# Altium schematic symbol library Schlib1.SchLib: 11 symbols
Pins are listed as number, name and electrical type; pins without a type are passive.

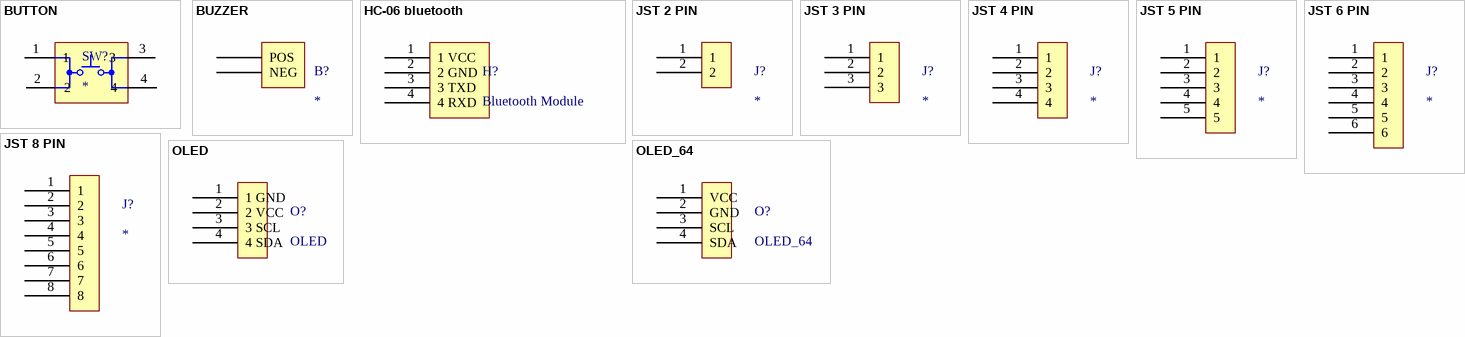
[diagram p0: symbols BUTTON to OLED_64]

## BUTTON
designator SW?
ALCOSWITCH - TE CONNECTIVITY - RESET BUTTON; Manufacturer: TE Connectivity Alcoswitch; Manufacturer Part Number: 1825910-6; Actuator Color: Black; Actuator Length: 1.4 mm; Actuator Material: Polybutylene Terephthalate; Body Orientation: Straight; Actuator Style: Round Button; Bushing Type: Unthreaded; Electrical Life: 100000 Cycles; Dielectric Strength: 500 VAC; Contact Rating @ Voltage: 0.05A@24VDC; Function: Momentary Contact; Maximum DC Voltage Rating: 24 V; Pole Throw Configuration: SPST; Maximum Contact Resistance: 100 mOhm; Illumination: N/R; Switch Configuration: OFF (ON); Supplier 1: Digi-Key; Stock 1: 77076; Pricing 1: 1=0.1, 10=0.093, 25=0.0892, 50=0.0862, 100=0.0814, 250=0.0766, 500=0.0734, 1000=0.0558, 5000=0.0463 (USD); Base Material: N/A; Family: 1825910; Contact Material: Copper Alloy; Contact Plating: Silver; Dimension: 5.99 x 5 mm; Part No: 1825910-6; RoHS: Yes; Maximum AC Voltage Rating: N/A; Mechanical Life: 100000 Cycles; Packaging: N/A; Housing Material: N/A; Product Weight: N/A; Mounting: Through Hole; Minimum Insulation Resistance: 100 MOhm; Operating Temperature: -35 to 85 C; Terminal Type: PC Pins; Seal Description: N/A; Seal Location: N/A; Thread Size: N/R; ComponentLink1URL: http://www.onlinecomponents.com/productFiles/mf-AMP/1825910-6rqpn1825910-6.pdf?src-supplier=Onlinecomponents.com; ComponentLink1Description: http://www.onlinecomponents.com/productFiles/mf-AMP/1825910-6rqpn1825910-6.pdf?src-supplier=Onlinecomponents.com; ComponentLink2URL: http://www.te.com/commerce/DocumentDelivery/DDEController?Action=srchrtrv&DocNm=1825910&DocType=Customer+Drawing&DocLang=English&src-supplier=Verical; ComponentLink2Description: http://www.te.com/commerce/DocumentDelivery/DDEController?Action=srchrtrv&DocNm=1825910&DocType=Customer+Drawing&DocLang=English&src-supplier=Verical; Supplier Part Number 1: 450-1650-ND
footprint PUSH BUTTON
pins: 1, 2, 3, 4

## BUZZER
designator B?
JST (JAPAN SOLDERLESS TERMINALS) - B8B-XH-A (LF)(SN) - HEADER, VERTICAL, 8WAY; No of Positions: 8; Pitch: 2.5 mm; Style/Orientation: Straight Header/Plug; Supplier 1: Digi-Key; Manufacturer: JST; Manufacturer Part Number: B8B-XH-A(LF)(SN); Stock 1: 29643; Pricing 1: 1=0.36, 10=0.341, 100=0.2387, 500=0.2046, 1000=0.1705, 5000=0.1461, 10000=0.1364 (USD); Type: Shrouded Header; Termination: Crimp; ComponentLink1URL: https://www.verical.com/server-webapp/html/getDatasheet?partID=440408&src-supplier=Verical; ComponentLink1Description: https://www.verical.com/server-webapp/html/getDatasheet?partID=440408&src-supplier=Verical; Supplier Part Number 1: 455-2251-ND
footprint new buzzer
pins: 1 POS, 2 NEG

## HC-06 bluetooth
designator H?, comment Bluetooth Module
JST (JAPAN SOLDERLESS TERMINALS) - B8B-XH-A (LF)(SN) - HEADER, VERTICAL, 8WAY; No of Positions: 8; Pitch: 2.5 mm; Style/Orientation: Straight Header/Plug; Supplier 1: Digi-Key; Manufacturer: JST; Manufacturer Part Number: B8B-XH-A(LF)(SN); Stock 1: 29643; Pricing 1: 1=0.36, 10=0.341, 100=0.2387, 500=0.2046, 1000=0.1705, 5000=0.1461, 10000=0.1364 (USD); Type: Shrouded Header; Termination: Crimp; ComponentLink1URL: https://www.verical.com/server-webapp/html/getDatasheet?partID=440408&src-supplier=Verical; ComponentLink1Description: https://www.verical.com/server-webapp/html/getDatasheet?partID=440408&src-supplier=Verical; Supplier Part Number 1: 455-2251-ND
footprint HC-06 bluetooth
pins: 1 1 VCC, 2 2 GND, 3 3 TXD, 4 4 RXD

## JST 2 PIN
designator J?
JST (JAPAN SOLDERLESS TERMINALS) - B8B-XH-A (LF)(SN) - HEADER, VERTICAL, 8WAY; No of Positions: 8; Pitch: 2.5 mm; Style/Orientation: Straight Header/Plug; Supplier 1: Digi-Key; Manufacturer: JST; Manufacturer Part Number: B8B-XH-A(LF)(SN); Stock 1: 29643; Pricing 1: 1=0.36, 10=0.341, 100=0.2387, 500=0.2046, 1000=0.1705, 5000=0.1461, 10000=0.1364 (USD); Type: Shrouded Header; Termination: Crimp; ComponentLink1URL: https://www.verical.com/server-webapp/html/getDatasheet?partID=440408&src-supplier=Verical; ComponentLink1Description: https://www.verical.com/server-webapp/html/getDatasheet?partID=440408&src-supplier=Verical; Supplier Part Number 1: 455-2251-ND
footprint JST2
pins: 1, 2

## JST 3 PIN
designator J?
JST (JAPAN SOLDERLESS TERMINALS) - B8B-XH-A (LF)(SN) - HEADER, VERTICAL, 8WAY; No of Positions: 8; Pitch: 2.5 mm; Style/Orientation: Straight Header/Plug; Supplier 1: Digi-Key; Manufacturer: JST; Manufacturer Part Number: B8B-XH-A(LF)(SN); Stock 1: 29643; Pricing 1: 1=0.36, 10=0.341, 100=0.2387, 500=0.2046, 1000=0.1705, 5000=0.1461, 10000=0.1364 (USD); Type: Shrouded Header; Termination: Crimp; ComponentLink1URL: https://www.verical.com/server-webapp/html/getDatasheet?partID=440408&src-supplier=Verical; ComponentLink1Description: https://www.verical.com/server-webapp/html/getDatasheet?partID=440408&src-supplier=Verical; Supplier Part Number 1: 455-2251-ND
footprint JST3
pins: 1, 2, 3

## JST 4 PIN
designator J?
JST (JAPAN SOLDERLESS TERMINALS) - B8B-XH-A (LF)(SN) - HEADER, VERTICAL, 8WAY; No of Positions: 8; Pitch: 2.5 mm; Style/Orientation: Straight Header/Plug; Supplier 1: Digi-Key; Manufacturer: JST; Manufacturer Part Number: B8B-XH-A(LF)(SN); Stock 1: 29643; Pricing 1: 1=0.36, 10=0.341, 100=0.2387, 500=0.2046, 1000=0.1705, 5000=0.1461, 10000=0.1364 (USD); Type: Shrouded Header; Termination: Crimp; ComponentLink1URL: https://www.verical.com/server-webapp/html/getDatasheet?partID=440408&src-supplier=Verical; ComponentLink1Description: https://www.verical.com/server-webapp/html/getDatasheet?partID=440408&src-supplier=Verical; Supplier Part Number 1: 455-2251-ND
footprint JST4
pins: 1, 2, 3, 4

## JST 5 PIN
designator J?
JST (JAPAN SOLDERLESS TERMINALS) - B8B-XH-A (LF)(SN) - HEADER, VERTICAL, 8WAY; No of Positions: 8; Pitch: 2.5 mm; Style/Orientation: Straight Header/Plug; Supplier 1: Digi-Key; Manufacturer: JST; Manufacturer Part Number: B8B-XH-A(LF)(SN); Stock 1: 29643; Pricing 1: 1=0.36, 10=0.341, 100=0.2387, 500=0.2046, 1000=0.1705, 5000=0.1461, 10000=0.1364 (USD); Type: Shrouded Header; Termination: Crimp; ComponentLink1URL: https://www.verical.com/server-webapp/html/getDatasheet?partID=440408&src-supplier=Verical; ComponentLink1Description: https://www.verical.com/server-webapp/html/getDatasheet?partID=440408&src-supplier=Verical; Supplier Part Number 1: 455-2251-ND
footprint JST5
pins: 1, 2, 3, 4, 5

## JST 6 PIN
designator J?
JST (JAPAN SOLDERLESS TERMINALS) - B8B-XH-A (LF)(SN) - HEADER, VERTICAL, 8WAY; No of Positions: 8; Pitch: 2.5 mm; Style/Orientation: Straight Header/Plug; Supplier 1: Digi-Key; Manufacturer: JST; Manufacturer Part Number: B8B-XH-A(LF)(SN); Stock 1: 29643; Pricing 1: 1=0.36, 10=0.341, 100=0.2387, 500=0.2046, 1000=0.1705, 5000=0.1461, 10000=0.1364 (USD); Type: Shrouded Header; Termination: Crimp; ComponentLink1URL: https://www.verical.com/server-webapp/html/getDatasheet?partID=440408&src-supplier=Verical; ComponentLink1Description: https://www.verical.com/server-webapp/html/getDatasheet?partID=440408&src-supplier=Verical; Supplier Part Number 1: 455-2251-ND
footprint JST6
pins: 1, 2, 3, 4, 5, 6

## JST 8 PIN
designator J?
JST (JAPAN SOLDERLESS TERMINALS) - B8B-XH-A (LF)(SN) - HEADER, VERTICAL, 8WAY; No of Positions: 8; Pitch: 2.5 mm; Style/Orientation: Straight Header/Plug; Supplier 1: Digi-Key; Manufacturer: JST; Manufacturer Part Number: B8B-XH-A(LF)(SN); Stock 1: 29643; Pricing 1: 1=0.36, 10=0.341, 100=0.2387, 500=0.2046, 1000=0.1705, 5000=0.1461, 10000=0.1364 (USD); Type: Shrouded Header; Termination: Crimp; ComponentLink1URL: https://www.verical.com/server-webapp/html/getDatasheet?partID=440408&src-supplier=Verical; ComponentLink1Description: https://www.verical.com/server-webapp/html/getDatasheet?partID=440408&src-supplier=Verical; Supplier Part Number 1: 455-2251-ND
footprint JST8
pins: 1, 2, 3, 4, 5, 6, 7, 8

## OLED
designator O?
JST (JAPAN SOLDERLESS TERMINALS) - B8B-XH-A (LF)(SN) - HEADER, VERTICAL, 8WAY; No of Positions: 8; Pitch: 2.5 mm; Style/Orientation: Straight Header/Plug; Supplier 1: Digi-Key; Manufacturer: JST; Manufacturer Part Number: B8B-XH-A(LF)(SN); Stock 1: 29643; Pricing 1: 1=0.36, 10=0.341, 100=0.2387, 500=0.2046, 1000=0.1705, 5000=0.1461, 10000=0.1364 (USD); Type: Shrouded Header; Termination: Crimp; ComponentLink1URL: https://www.verical.com/server-webapp/html/getDatasheet?partID=440408&src-supplier=Verical; ComponentLink1Description: https://www.verical.com/server-webapp/html/getDatasheet?partID=440408&src-supplier=Verical; Supplier Part Number 1: 455-2251-ND
footprint OLED
pins: 1 1 GND, 2 2 VCC, 3 3 SCL, 4 4 SDA

## OLED_64
designator O?
JST (JAPAN SOLDERLESS TERMINALS) - B8B-XH-A (LF)(SN) - HEADER, VERTICAL, 8WAY; No of Positions: 8; Pitch: 2.5 mm; Style/Orientation: Straight Header/Plug; Supplier 1: Digi-Key; Manufacturer: JST; Manufacturer Part Number: B8B-XH-A(LF)(SN); Stock 1: 29643; Pricing 1: 1=0.36, 10=0.341, 100=0.2387, 500=0.2046, 1000=0.1705, 5000=0.1461, 10000=0.1364 (USD); Type: Shrouded Header; Termination: Crimp; ComponentLink1URL: https://www.verical.com/server-webapp/html/getDatasheet?partID=440408&src-supplier=Verical; ComponentLink1Description: https://www.verical.com/server-webapp/html/getDatasheet?partID=440408&src-supplier=Verical; Supplier Part Number 1: 455-2251-ND
footprint OLED_SSD1306_64
pins: 1 VCC, 2 GND, 3 SCL, 4 SDA